# Altium integrated library FPGA EvalBoard Port-Plugin.IntLib: 26 symbols
Pins are listed as number, name and electrical type; pins without a type are passive.

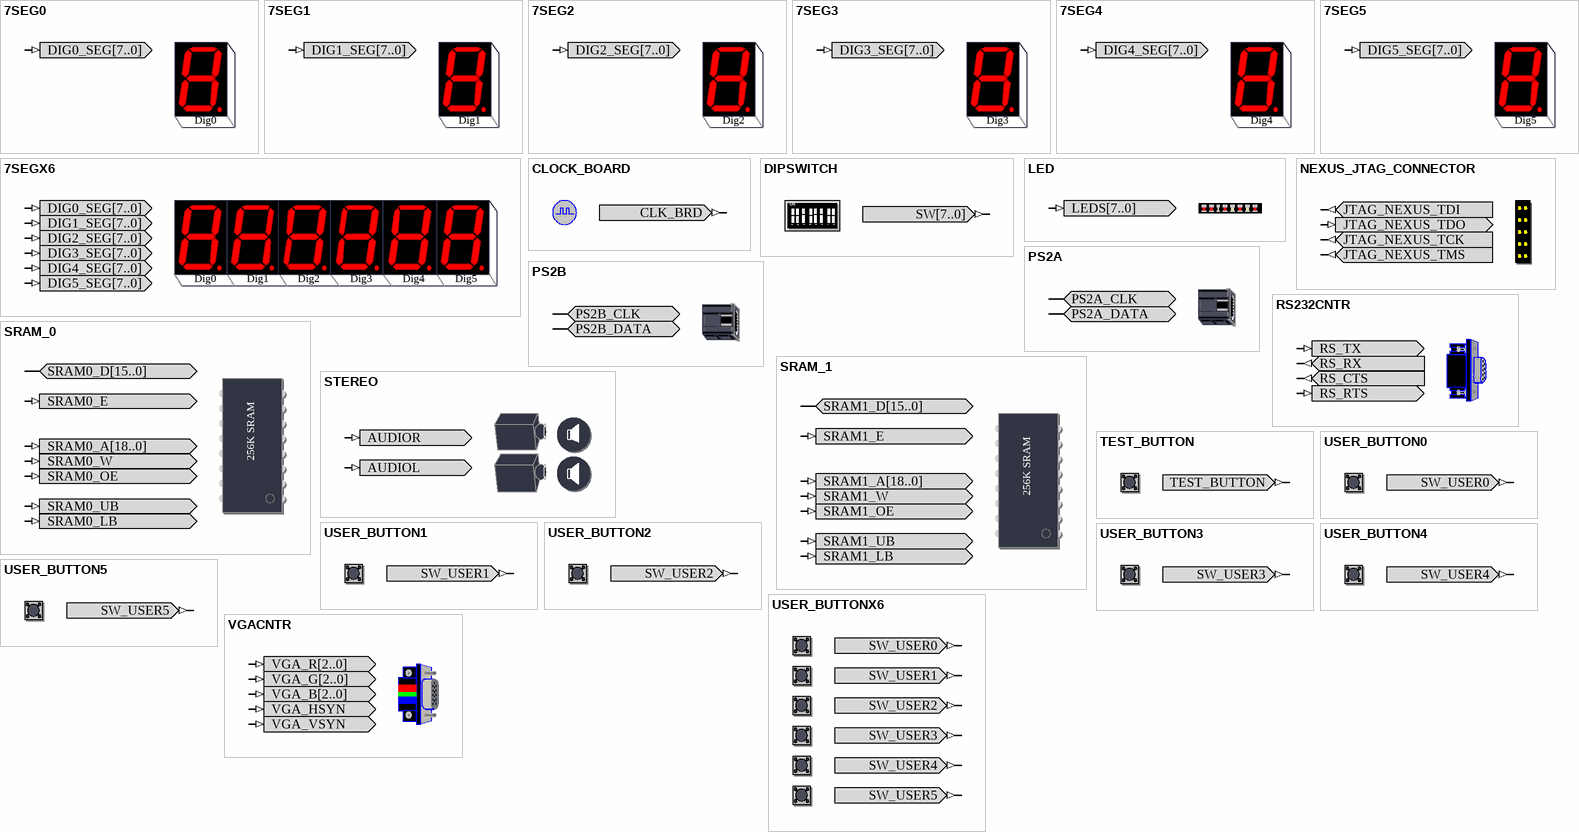
[diagram p0: symbols 7SEG0 to VGACNTR]

## 7SEG0
designator ?  (value not drawn)
7 Segment display module; PortComponent: True; Publisher: Altium Limited; Published: 9-Sept-2004; HelpURL: LiveDesign_Eval_Board_Tech_Ref_Manual.pdf#page=22
pins: DIG0_SEG[7..0] (in)
text: Dig0

## 7SEG1
designator ?  (value not drawn)
7 Segment display module; PortComponent: True; Publisher: Altium Limited; Published: 9-Sept-2004; HelpURL: LiveDesign_Eval_Board_Tech_Ref_Manual.pdf#page=22
pins: DIG1_SEG[7..0] (in)
text: Dig1

## 7SEG2
designator ?  (value not drawn)
7 Segment display module; PortComponent: True; Publisher: Altium Limited; Published: 9-Sept-2004; HelpURL: LiveDesign_Eval_Board_Tech_Ref_Manual.pdf#page=22
pins: DIG2_SEG[7..0] (in)
text: Dig2

## 7SEG3
designator ?  (value not drawn)
7 Segment display module; PortComponent: True; Publisher: Altium Limited; Published: 9-Sept-2004; HelpURL: LiveDesign_Eval_Board_Tech_Ref_Manual.pdf#page=22
pins: DIG3_SEG[7..0] (in)
text: Dig3

## 7SEG4
designator ?  (value not drawn)
7 Segment display module; PortComponent: True; Publisher: Altium Limited; Published: 9-Sept-2004; HelpURL: LiveDesign_Eval_Board_Tech_Ref_Manual.pdf#page=22
pins: DIG4_SEG[7..0] (in)
text: Dig4

## 7SEG5
designator ?  (value not drawn)
7 Segment display module; PortComponent: True; Publisher: Altium Limited; Published: 9-Sept-2004; HelpURL: LiveDesign_Eval_Board_Tech_Ref_Manual.pdf#page=22
pins: DIG5_SEG[7..0] (in)
text: Dig5

## 7SEGX6
designator ?  (value not drawn)
6 x 7 Segment display module; PortComponent: True; Publisher: Altium Limited; Published: 9-Sept-2004; HelpURL: LiveDesign_Eval_Board_Tech_Ref_Manual.pdf#page=22
pins: DIG0_SEG[7..0] (in), DIG1_SEG[7..0] (in), DIG2_SEG[7..0] (in), DIG3_SEG[7..0] (in), DIG4_SEG[7..0] (in), DIG5_SEG[7..0] (in)
text: Dig0; Dig1; Dig2; Dig3; Dig4; Dig5

## CLOCK_BOARD
designator ?  (value not drawn)
Global System Clock Supply; PortComponent: True; Published: 19-Nov-2003; Publisher: Altium Limited; HelpURL: LiveDesign_Eval_Board_Tech_Ref_Manual.pdf#page=19
pins: CLK_BRD (out)

## DIPSWITCH
designator ?  (value not drawn)
8-Way Dip Switch; PortComponent: True; Published: 19-Nov-2003; Publisher: Altium Limited; HelpURL: LiveDesign_Eval_Board_Tech_Ref_Manual.pdf#page=23
pins: SW[7..0] (out)
text: ON; 1; 2; 3; 4; 5; 6; 7; 8

## LED
designator ?  (value not drawn)
8-Way LEDS; PortComponent: True; Published: 19-Nov-2003; Publisher: Altium Limited; HelpURL: LiveDesign_Eval_Board_Tech_Ref_Manual.pdf#page=24
pins: LEDS[7..0] (in)

## NEXUS_JTAG_CONNECTOR
designator ?  (value not drawn)
JTAG Port; PortComponent: True; Published: 19-Nov-2003; Publisher: Altium Limited; HelpURL: TR0102 NanoBoard Technical Reference Manual - NB1.pdf#page=33
pins: JTAG_NEXUS_TCK (out), JTAG_NEXUS_TDI (out), JTAG_NEXUS_TDO (in), JTAG_NEXUS_TMS (out)

## PS2A
designator ?  (value not drawn)
Mouse PS2 Connector; PortComponent: True; Published: 19-Nov-2003; Publisher: Altium Limited; HelpURL: LiveDesign_Eval_Board_Tech_Ref_Manual.pdf#page=21
pins: PS2A_CLK (io), PS2A_DATA (io)

## PS2B
designator ?  (value not drawn)
Key Board PS2 Connector; PortComponent: True; Published: 19-Nov-2003; Publisher: Altium Limited; HelpURL: LiveDesign_Eval_Board_Tech_Ref_Manual.pdf#page=21
pins: PS2B_CLK (io), PS2B_DATA (io)

## RS232CNTR
designator ?  (value not drawn)
DCE Serial Port Connector; PortComponent: True; Published: 19-Nov-2003; Publisher: Altium Limited; HelpURL: LiveDesign_Eval_Board_Tech_Ref_Manual.pdf#page=20
pins: RS_CTS (out), RS_RTS (in), RS_RX (out), RS_TX (in)

## SRAM_0
designator ?  (value not drawn)
SRAM - 0 Module - 256K; PortComponent: True; Published: 13-May-2004; Publisher: Altium Limited; HelpURL: LiveDesign_Eval_Board_Tech_Ref_Manual.pdf#page=19
pins: SRAM0_A[18..0] (in), SRAM0_D[15..0] (io), SRAM0_E (in), SRAM0_LB (in), SRAM0_OE (in), SRAM0_UB (in), SRAM0_W (in)
text: 256K SRAM

## SRAM_1
designator ?  (value not drawn)
SRAM - 1 Module - 256K; PortComponent: True; Published: 13-May-2004; Publisher: Altium Limited; HelpURL: LiveDesign_Eval_Board_Tech_Ref_Manual.pdf#page=19
pins: SRAM1_A[18..0] (in), SRAM1_D[15..0] (io), SRAM1_E (in), SRAM1_LB (in), SRAM1_OE (in), SRAM1_UB (in), SRAM1_W (in)
text: 256K SRAM

## STEREO
designator ?  (value not drawn)
Sound interface; PortComponent: True; Published: 19-Nov-2003; Publisher: Altium Limited; HelpURL: LiveDesign_Eval_Board_Tech_Ref_Manual.pdf#page=22
pins: AUDIOL (in), AUDIOR (in)

## TEST_BUTTON
designator ?  (value not drawn)
Test Button; PortComponent: True; Published: 19-Nov-2003; Publisher: Altium Limited; HelpURL: LiveDesign_Eval_Board_Tech_Ref_Manual.pdf#page=24
pins: TEST_BUTTON (out)

## USER_BUTTON0
designator ?  (value not drawn)
User Buttons; PortComponent: True; Published: 19-Nov-2003; Publisher: Altium Limited; HelpURL: LiveDesign_Eval_Board_Tech_Ref_Manual.pdf#page=23
pins: SW_USER0 (out)

## USER_BUTTON1
designator ?  (value not drawn)
User Buttons; PortComponent: True; Published: 19-Nov-2003; Publisher: Altium Limited; HelpURL: LiveDesign_Eval_Board_Tech_Ref_Manual.pdf#page=23
pins: SW_USER1 (out)

## USER_BUTTON2
designator ?  (value not drawn)
User Buttons; PortComponent: True; Published: 19-Nov-2003; Publisher: Altium Limited; HelpURL: LiveDesign_Eval_Board_Tech_Ref_Manual.pdf#page=23
pins: SW_USER2 (out)

## USER_BUTTON3
designator ?  (value not drawn)
User Buttons; PortComponent: True; Published: 19-Nov-2003; Publisher: Altium Limited; HelpURL: LiveDesign_Eval_Board_Tech_Ref_Manual.pdf#page=23
pins: SW_USER3 (out)

## USER_BUTTON4
designator ?  (value not drawn)
User Buttons; PortComponent: True; Published: 19-Nov-2003; Publisher: Altium Limited; HelpURL: LiveDesign_Eval_Board_Tech_Ref_Manual.pdf#page=23
pins: SW_USER4 (out)

## USER_BUTTON5
designator ?  (value not drawn)
User Buttons; PortComponent: True; Published: 19-Nov-2003; Publisher: Altium Limited; HelpURL: LiveDesign_Eval_Board_Tech_Ref_Manual.pdf#page=23
pins: SW_USER5 (out)

## USER_BUTTONX6
designator ?  (value not drawn)
User Buttons; PortComponent: True; Published: 19-Nov-2003; Publisher: Altium Limited; HelpURL: LiveDesign_Eval_Board_Tech_Ref_Manual.pdf#page=23
pins: SW_USER0 (out), SW_USER1 (out), SW_USER2 (out), SW_USER3 (out), SW_USER4 (out), SW_USER5 (out)

## VGACNTR
designator ?  (value not drawn)
VGA Dsub-15-Female-HD; PortComponent: True; Published: 19-Nov-2003; Publisher: Altium Limited; HelpURL: LiveDesign_Eval_Board_Tech_Ref_Manual.pdf#page=21
pins: VGA_B[2..0] (in), VGA_G[2..0] (in), VGA_HSYN (in), VGA_R[2..0] (in), VGA_VSYN (in)